# Altium integrated library AEVC.IntLib: 1 symbol
Pins are listed as number, name and electrical type; pins without a type are passive.

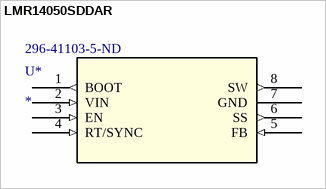
[diagram p0: symbol LMR14050SDDAR]

## LMR14050SDDAR
designator U*  Supplier Part Number 1: 296-41103-5-ND
dc-dc converter; Manufacturer_Part_Number: LMR14050SDDAR; Vendor: Texas Instruments; Built_By: EMA_UL_Team; C: Copyright (C) 2016 Accelerated Designs. All rights reserved; Value: Value; Type: Type; RefDes: RefDes; Supplier 1: Digi-Key
footprint DDA8
footprint DDA8-L
footprint DDA8-M
pins: 1 BOOT (out), 2 VIN (in), 3 EN (in), 4 RT/SYNC (in), 5 FB (in), 6 SS (out), 7 GND (power), 8 SW (out)